# Altium footprint library SIP6-100mil.PcbLib: 1 footprints
Each footprint in its own frame and in the unit in brackets; x right, y up, seen from the top. Pads: shape width x height; smd on the part's side, far side on the other; paste and mask are expansions set on the pad; w line width, h text height; cw(c..) or ccw(c..) is an arc to the next point about the centre after c.
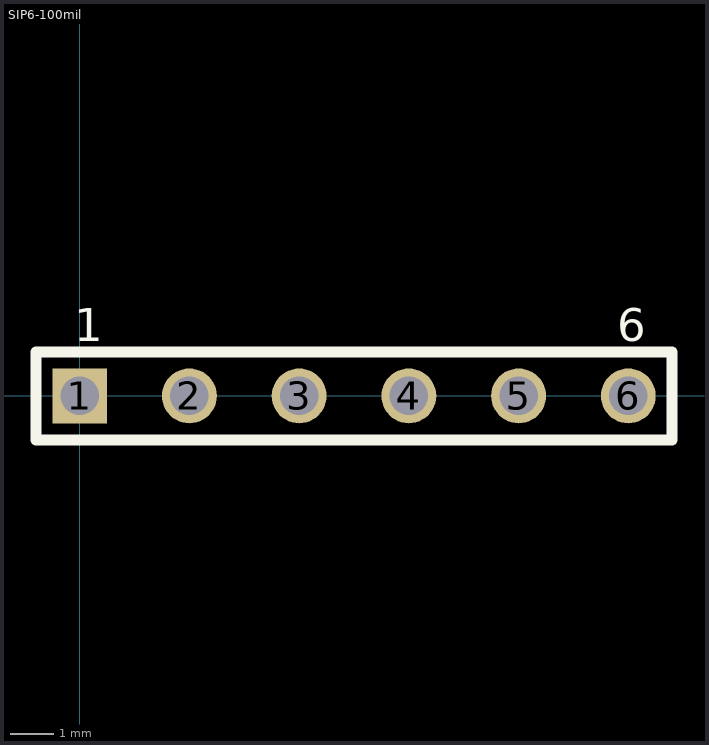
[diagram p0: the footprint, top view; thin cyan lines are the x and y axes]

## SIP6-100mil [mil] "PCB 10 Position Ribbon Cable"
pads (6):
  rect 50x50 hole 35: 1(0,0)
  round 50 hole 35: 2(100,0) 3(200,0) 4(300,0) 5(400,0) 6(500,0)
Top Overlay:
  lines w10: -40,-40 540,-40 540,40 -40,40 -40,-40
  text "6" at 490,50 h30
  text "1" at -5,50 h30